# EAGLE library part IDE_CONN (library F030NG)
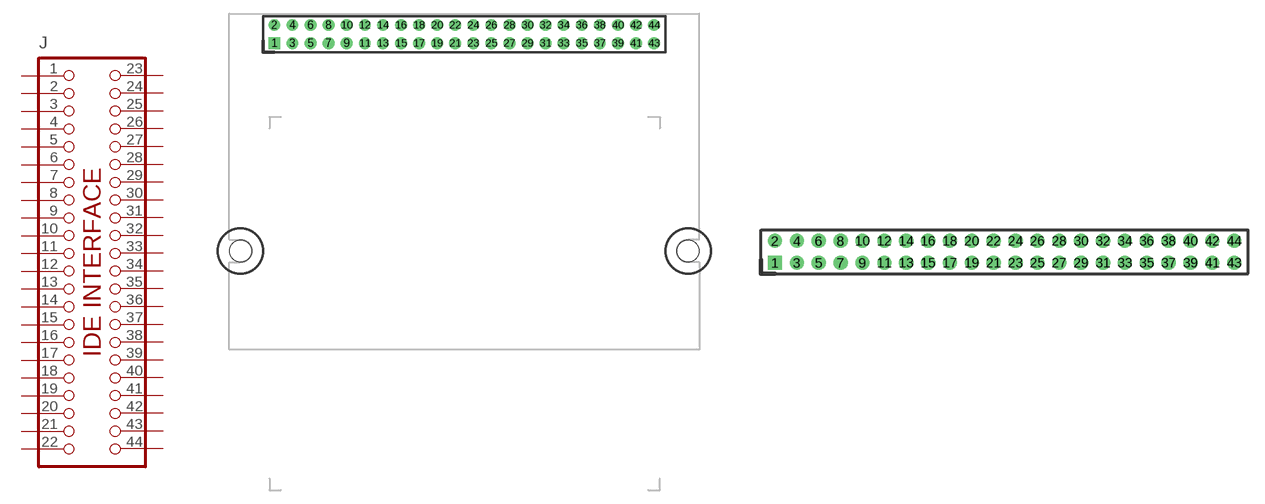
[diagram p13: symbol with the pads of CF_IDE; footprints CF_IDE, PH_2X22_2MM]

Designator prefix J

## IDE_CONN-CF  [CF_IDE]
1  1  pas
2  2  pas
3  3  pas
4  4  pas
5  5  pas
6  6  pas
7  7  pas
8  8  pas
9  9  pas
10  10  pas
11  11  pas
12  12  pas
13  13  pas
14  14  pas
15  15  pas
16  16  pas
17  17  pas
18  18  pas
19  19  pas
20  20  pas
21  21  pas
22  22  pas
23  23  pas
24  24  pas
25  25  pas
26  26  pas
27  27  pas
28  28  pas
29  29  pas
30  30  pas
31  31  pas
32  32  pas
33  33  pas
34  34  pas
35  35  pas
36  36  pas
37  37  pas
38  38  pas
39  39  pas
40  40  pas
41  41  pas
42  42  pas
43  43  pas
44  44  pas

## IDE_CONN-HD  [PH_2X22_2MM]
Pads as for CF_IDE

## Footprint CF_IDE (pad centres in mm)
PIN HEADER
drill 0.8 pad 1.27 square: 1 0,0
drill 0.8 pad 1.27: 2 0,2; 3 2,0; 4 2,2; 5 4,0; 6 4,2; 7 6,0; 8 6,2; 9 8,0; 10 8,2; 11 10,0; 12 10,2; 13 12,0; 14 12,2; 15 14,0; 16 14,2; 17 16,0; 18 16,2; 19 18,0; 20 18,2; 21 20,0; 22 20,2; 23 22,0; 24 22,2; 25 24,0; 26 24,2; 27 26,0; 28 26,2; 29 28,0; 30 28,2; 31 30,0; 32 30,2; 33 32,0; 34 32,2; 35 34,0; 36 34,2; 37 36,0; 38 36,2; 39 38,0; 40 38,2; 41 40,0; 42 40,2; 43 42,0; 44 42,2
hole 2.4 at -3.74,-22.98
hole 2.4 at 45.76,-22.98

## Footprint PH_2X22_2MM (pad centres in mm)
PIN HEADER
drill 0.8 pad 1.27 square: 1 0,0
drill 0.8 pad 1.27: 2 0,2; 3 2,0; 4 2,2; 5 4,0; 6 4,2; 7 6,0; 8 6,2; 9 8,0; 10 8,2; 11 10,0; 12 10,2; 13 12,0; 14 12,2; 15 14,0; 16 14,2; 17 16,0; 18 16,2; 19 18,0; 20 18,2; 21 20,0; 22 20,2; 23 22,0; 24 22,2; 25 24,0; 26 24,2; 27 26,0; 28 26,2; 29 28,0; 30 28,2; 31 30,0; 32 30,2; 33 32,0; 34 32,2; 35 34,0; 36 34,2; 37 36,0; 38 36,2; 39 38,0; 40 38,2; 41 40,0; 42 40,2; 43 42,0; 44 42,2